# Altium schematic symbol library MCS0630-100MN1.SchLib: 1 symbol
Pins are listed as number, name and electrical type; pins without a type are passive.

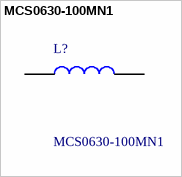
[diagram p0: symbol MCS0630-100MN1]

## MCS0630-100MN1
designator L?
Inductors (SMD) 0630,SMD,7.3x6.6mm RoHS; Manufacturer_Name: Prosperity Dielectrics; Geometry.Height: 3mm; Manufacturer_Part_Number: MCS0630-100MN1; Mouser Part Number: *; Mouser Price/Stock: *; Arrow Part Number: *; Arrow Price/Stock: *; Datasheet Link: https://datasheet.lcsc.com/szlcsc/1904111132_Prosperity-Dielectrics-MCS0630-100MN1_C385254.pdf
footprint INDPM7366X300N
pins: 1, 2